# Altium schematic symbol library SCH_Lib_Devzone.SchLib: 453 symbols (part 3 of 3)
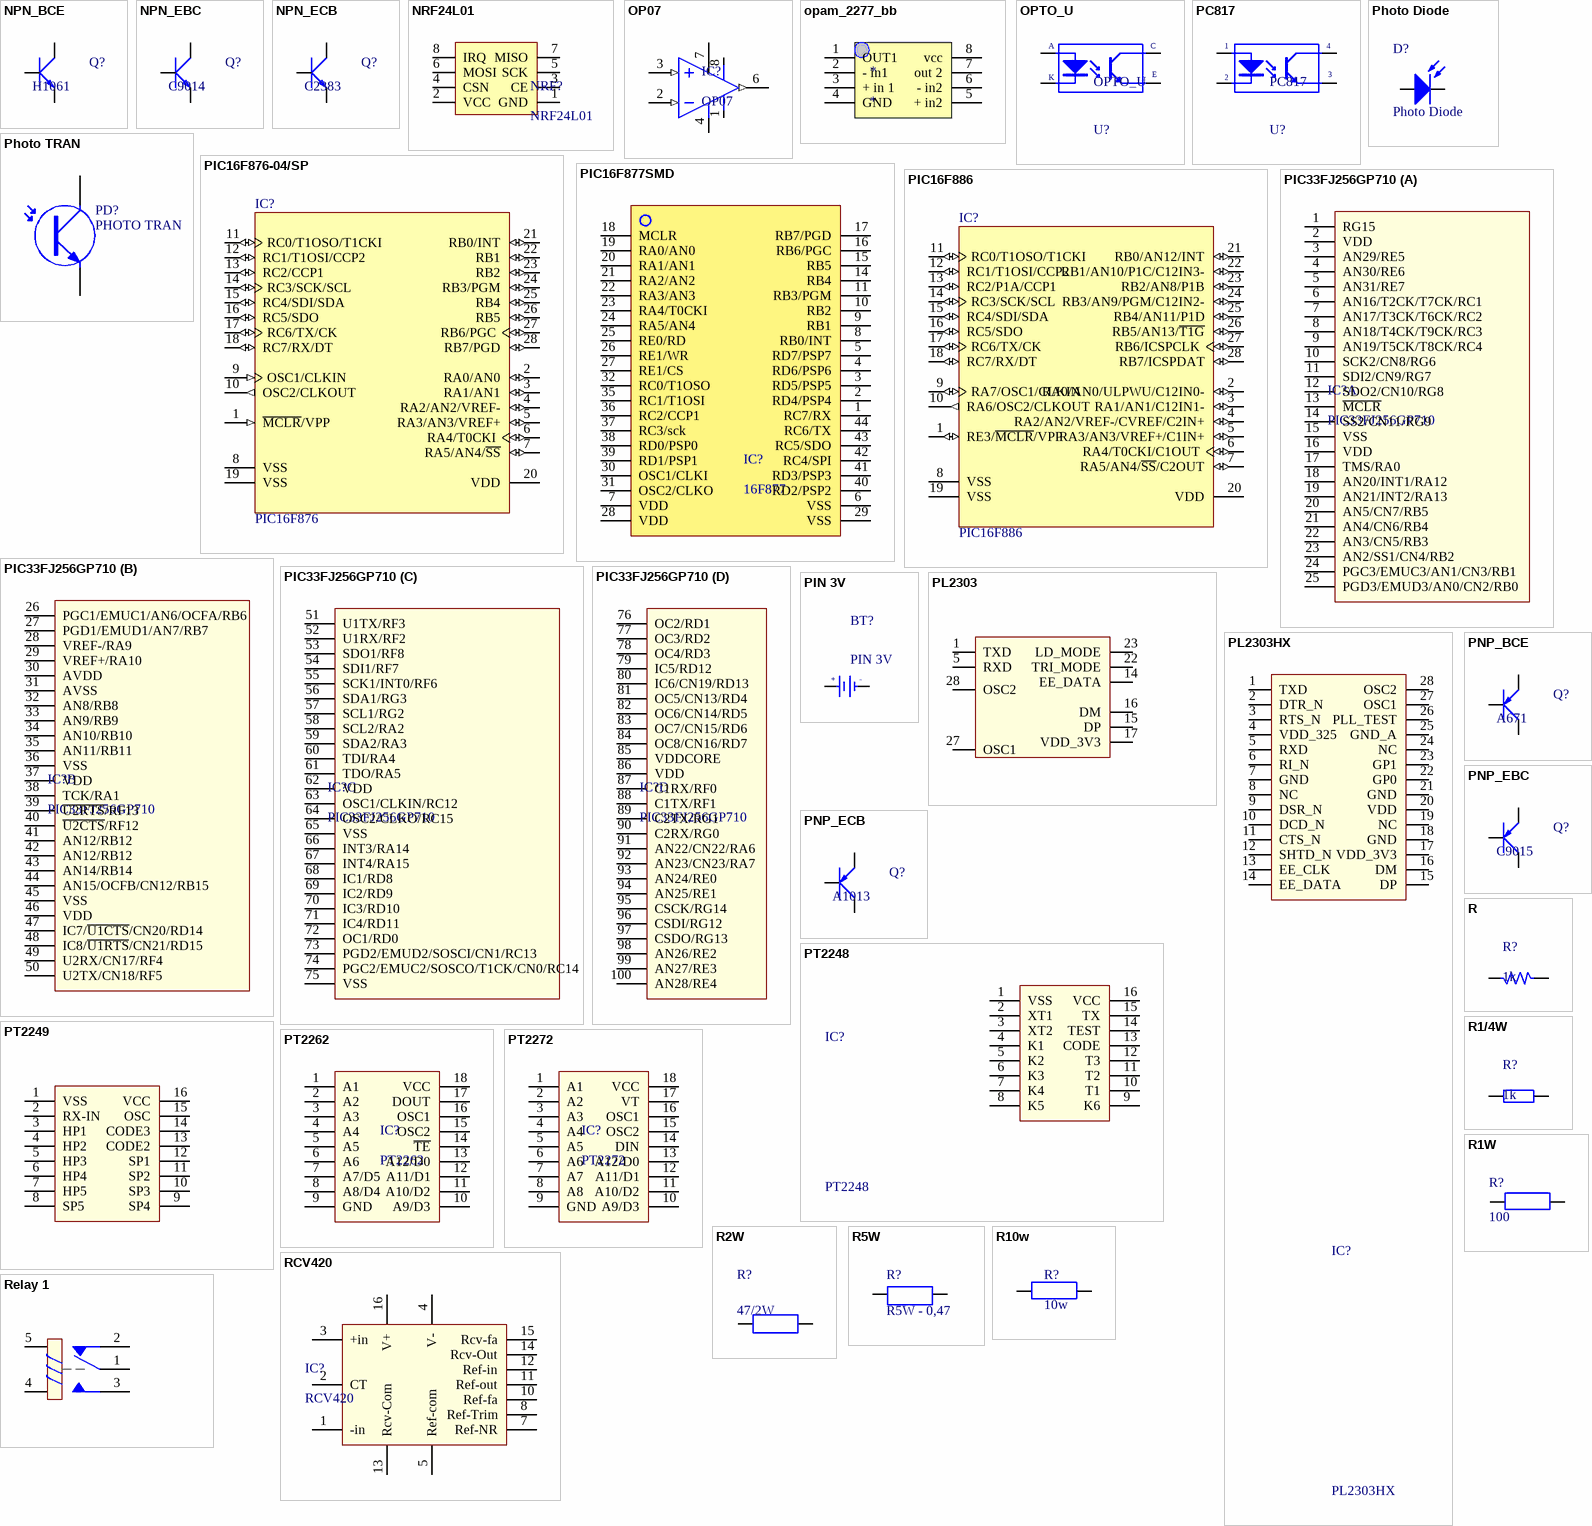
[diagram p18: symbols NPN_BCE to Relay 1]

## PIC33FJ256GP710
designator IC?
Value: DIP100
footprint DIP100_2M (DIP100 - P-P 2mm)
footprint TQFP-100-12X12 (Shrink QFP, 100-Leads, Body 12x12mm, Pitch 0.4mm, IPC High Density)
part A pins: 1 RG15, 2 VDD, 3 AN29/RE5, 4 AN30/RE6, 5 AN31/RE7, 6 AN16/T2CK/T7CK/RC1, 7 AN17/T3CK/T6CK/RC2, 8 AN18/T4CK/T9CK/RC3, 9 AN19/T5CK/T8CK/RC4, 10 SCK2/CN8/RG6, 11 SDI2/CN9/RG7, 12 SDO2/CN10/RG8, 13 ~{MCLR}, 14 SS2/CN11/RG9, 15 VSS, 16 VDD, 17 TMS/RA0, 18 AN20/INT1/RA12, 19 AN21/INT2/RA13, 20 AN5/CN7/RB5, 21 AN4/CN6/RB4, 22 AN3/CN5/RB3, 23 AN2/SS1/CN4/RB2, 24 PGC3/EMUC3/AN1/CN3/RB1, 25 PGD3/EMUD3/AN0/CN2/RB0
part B pins: 26 PGC1/EMUC1/AN6/OCFA/RB6, 27 PGD1/EMUD1/AN7/RB7, 28 VREF-/RA9, 29 VREF+/RA10, 30 AVDD, 31 AVSS, 32 AN8/RB8, 33 AN9/RB9, 34 AN10/RB10, 35 AN11/RB11, 36 VSS, 37 VDD, 38 TCK/RA1, 39 ~{U2RTS}/RF13, 40 ~{U2CTS}/RF12, 41 AN12/RB12, 42 AN12/RB12, 43 AN14/RB14, 44 AN15/OCFB/CN12/RB15, 45 VSS, 46 VDD, 47 IC7/~{U1CTS}/CN20/RD14, 48 IC8/~{U1RTS}/CN21/RD15, 49 U2RX/CN17/RF4, 50 U2TX/CN18/RF5
part C pins: 51 U1TX/RF3, 52 U1RX/RF2, 53 SDO1/RF8, 54 SDI1/RF7, 55 SCK1/INT0/RF6, 56 SDA1/RG3, 57 SCL1/RG2, 58 SCL2/RA2, 59 SDA2/RA3, 60 TDI/RA4, 61 TDO/RA5, 62 VDD, 63 OSC1/CLKIN/RC12, 64 OSC2/CLKO/RC15, 65 VSS, 66 INT3/RA14, 67 INT4/RA15, 68 IC1/RD8, 69 IC2/RD9, 70 IC3/RD10, 71 IC4/RD11, 72 OC1/RD0, 73 PGD2/EMUD2/SOSCI/CN1/RC13, 74 PGC2/EMUC2/SOSCO/T1CK/CN0/RC14, 75 VSS
part D pins: 76 OC2/RD1, 77 OC3/RD2, 78 OC4/RD3, 79 IC5/RD12, 80 IC6/CN19/RD13, 81 OC5/CN13/RD4, 82 OC6/CN14/RD5, 83 OC7/CN15/RD6, 84 OC8/CN16/RD7, 85 VDDCORE, 86 VDD, 87 C1RX/RF0, 88 C1TX/RF1, 89 C2TX/RG1, 90 C2RX/RG0, 91 AN22/CN22/RA6, 92 AN23/CN23/RA7, 93 AN24/RE0, 94 AN25/RE1, 95 CSCK/RG14, 96 CSDI/RG12, 97 CSDO/RG13, 98 AN26/RE2, 99 AN27/RE3, 100 AN28/RE4

## PIN 3V
designator BT?
Battery 3VDC; Value: PIN 3V
footprint PIN3V (Socket PIN 3V)
footprint PIN 3V-S (Socket PIN 3V)
pins: 1 +3V, 2 GND
text: +; -

## PL2303
designator IC?
USB - RS232 Converter; Value: PL2303
footprint SO-G28/C6.8 (SSOP, Plastic; 28 Leads; Body Width 5.3 mm; Pitch 0.65 mm)
pins: 1 TXD, 2 DTR_N hidden, 3 RTS_N hidden, 4 VDD_232 hidden to VCC, 5 RXD, 6 RI_N hidden to GND, 7 GND hidden to GND, 8 VDD hidden to VCC, 9 DSR_N hidden to GND, 10 DCD_N hidden to GND, 11 CTS_N hidden to VCC, 12 SHTD_N hidden, 13 EE_CLK hidden, 14 EE_DATA, 15 DP, 16 DM, 17 VDD_3V3, 18 GND_3V3 hidden to GND, 19 RESET hidden to VCC, 20 VDD hidden to VCC, 21 GND hidden to GND, 22 TRI_MODE, 23 LD_MODE, 24 VDD_PLL hidden to VCC, 25 GND_PLL hidden to GND, 26 PLL_TEST hidden to GND, 27 OSC1, 28 OSC2

## PL2303HX
designator IC?
USB - RS232 Converter; Value: PL2303
footprint SO-G28/C6.8 (SSOP, Plastic; 28 Leads; Body Width 5.3 mm; Pitch 0.65 mm)
pins: 1 TXD, 2 DTR_N, 3 RTS_N, 4 VDD_325, 5 RXD, 6 RI_N, 7 GND, 8 NC, 9 DSR_N, 10 DCD_N, 11 CTS_N, 12 SHTD_N, 13 EE_CLK, 14 EE_DATA, 15 DP, 16 DM, 17 VDD_3V3, 18 GND, 19 NC, 20 VDD, 21 GND, 22 GP0, 23 GP1, 24 NC, 25 GND_A, 26 PLL_TEST, 27 OSC1, 28 OSC2

## PNP_BCE
designator Q?, comment A671
P 1W, EBC; Value: TIP42
footprint QTO-220 (TO-220 - 1-2-3)
pins: 1 B, 2 C, 3 E

## PNP_EBC
designator Q?, comment C9015
P 600mW, EBC; Value: C9015
footprint QTO-92 (TO-92)
pins: 1 E, 2 B, 3 C

## PNP_ECB
designator Q?, comment A1013
P 600mW, ECB; Value: A1015
footprint QTO-92 (TO-92)
pins: 1 E, 2 C, 3 B

## PT2248
designator IC?
Remote Control Tranmitter; Value: PT2248
footprint DIP16/W0.3 (16 PIN, W 300mil, Pin to pin 100mil)
pins: 1 VSS, 2 XT1, 3 XT2, 4 K1, 5 K2, 6 K3, 7 K4, 8 K5, 9 K6, 10 T1, 11 T2, 12 T3, 13 CODE, 14 TEST, 15 TX, 16 VCC

## PT2249
designator IC?
Remote Control Receiver; Value: PT2249
footprint DIP16/W0.3 (16 PIN, W 300mil, Pin to pin 100mil)
pins: 1 VSS, 2 RX-IN, 3 HP1, 4 HP2, 5 HP3, 6 HP4, 7 HP5, 8 SP5, 9 SP4, 10 SP3, 11 SP2, 12 SP1, 13 CODE2, 14 CODE3, 15 OSC, 16 VCC

## PT2262
designator IC?
Remote Control Encoder
footprint DIP18/W0.3 (18 PIN, W 300mil, Pin to pin 100mil)
pins: 1 A1, 2 A2, 3 A3, 4 A4, 5 A5, 6 A6, 7 A7/D5, 8 A8/D4, 9 GND, 10 A9/D3, 11 A10/D2, 12 A11/D1, 13 A12/D0, 14 ~{TE}, 15 OSC2, 16 OSC1, 17 DOUT, 18 VCC

## PT2272
designator IC?
Remote Control Decoder
footprint DIP18/W0.3 (18 PIN, W 300mil, Pin to pin 100mil)
pins: 1 A1, 2 A2, 3 A3, 4 A4, 5 A5, 6 A6, 7 A7, 8 A8, 9 GND, 10 A9/D3, 11 A10/D2, 12 A11/D1, 13 A12/D0, 14 DIN, 15 OSC2, 16 OSC1, 17 VT, 18 VCC

## R
designator R?, comment 1k
Resistor 1/4W; Value: R1/4W - 1K
footprint SM-1206 (Compoment SMD 120x60mil)
footprint R1/8W (R 1/8W, 2 pin, 300mil)
footprint R1/4W (R 1/4W, 2 Pin, 350mil)
footprint R1/4WD (R 1/4W, 2 Pin, 150mil)
pins: 1, 2

## R1/4W
designator R?, comment 1k
Resistor 1/4W; Value: R1/4W - 1K
footprint R1/4W (R 1/4W, 2 Pin, 350mil)
footprint R1/8W (R 1/8W, 2 pin, 300mil)
footprint R1/2W (R 1/2W, 2 pin, 400mil)
footprint R1/4WD (R 1/4W, 2 Pin, 150mil)
pins: 1, 2

## R1W
designator R?, comment 100
Resistor 1W; Value: R1W - 100
footprint R1W (R 1W, 2 pin, 500mil)
footprint R1WD (R 1W, 2 pin, 500mil)
footprint Res_15mm
pins: 1, 2

## R2W
designator R?, comment 47/2W
Resistor 2W; Value: R2W - 47
footprint R2WD (R2W, 2 pin, 700mil)
footprint R2W (R2W, 2 pin, 700mil)
pins: 1, 2

## R5W
designator R?, comment R5W - 0,47
Resistor 5W; Value: R5W - 0,47R
footprint R5W (R5W , 2 pin, 950mil)
footprint R5WD (R5W , 2 pin, 300 x 600 mil)
pins: 1 "R5W", 2 "R5W"

## R10w
designator R?, comment 10w
footprint R10w
pins: 1, 2

## RCV420
designator IC?
Precision 4mA to 20mA  CURRENT LOOP RECEIVER; Designed by: VanDungEvn; Value: RCV420
footprint DIP16/W0.3 (16 PIN, W 300mil, Pin to pin 100mil)
pins: 1 -in, 2 CT, 3 +in, 4 V-, 5 Ref-com, 7 Ref-NR, 8 Ref-Trim, 10 Ref-fa, 11 Ref-out, 12 Ref-in, 13 Rcv-Com, 14 Rcv-Out, 15 Rcv-fa, 16 V+

## Relay 1
designator RL?, comment Relay 10A/12V
Relay SPDT,10A - 12VDC 5 Pin; Value: Relay SPDT, 10A, 12V
footprint RL_SPDT_10A (Relay SPDT, 5 pin, 10A,W 650mil, L 800mil, H 800mil)
pins: 1, 2, 3, 4, 5

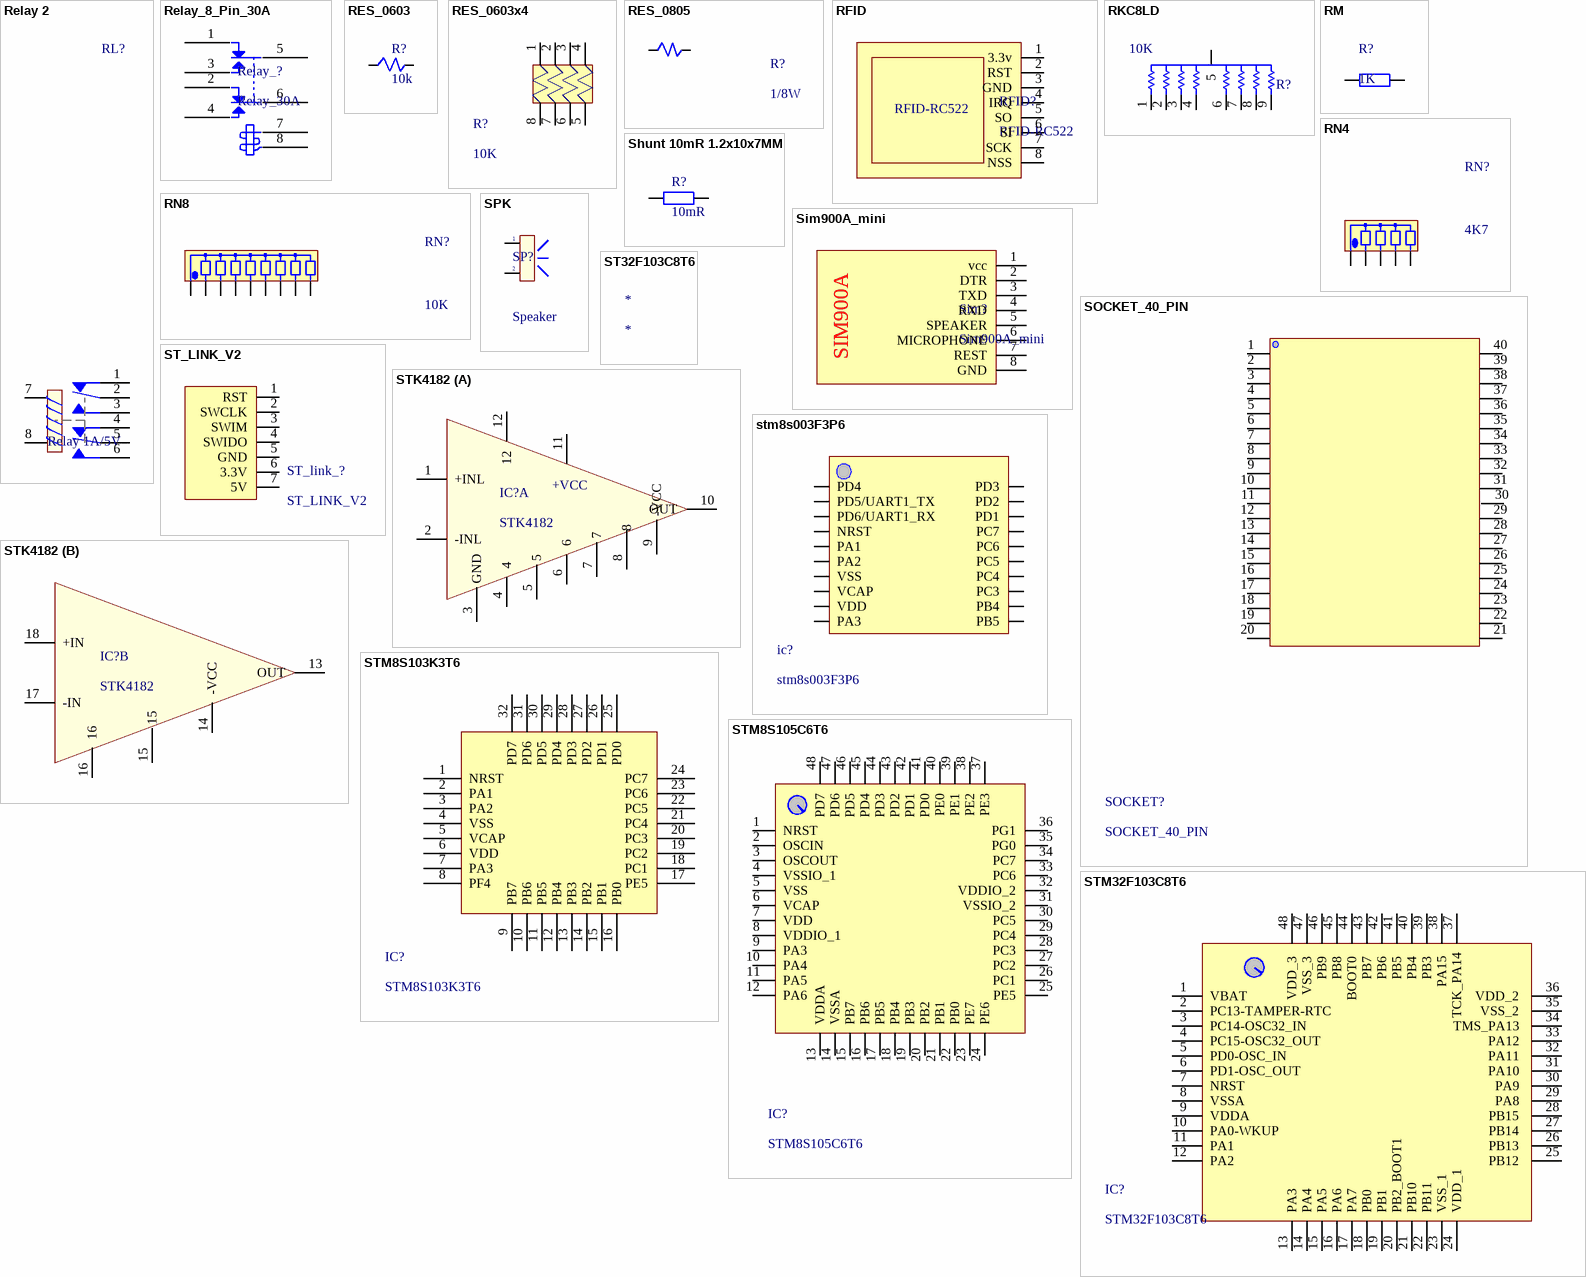
[diagram p13: symbols Relay 2 to STM32F103C8T6]

## Relay 2
designator RL?, comment Relay 1A/5V
Relay DPDT; Discription: Relay DPDT 5V, 12V - 1A - 5A; Value: Relay - 5V - 1A
footprint RL_DPDT_5A (Reley DPDT, 8 pin, 5A, W500mil, L1100mil,H 950mil)
footprint RL_DPDT_1A (Reley DPDT, 8 pin, 1A, W400mil, L800mil,H 300mil)
pins: 1, 2, 3, 4, 5, 6, 7, 8

## Relay_8_Pin_30A
designator Relay_?, comment Relay_30A
Relay
footprint PCBComponent_1
pins: 1 COIL1, 2 COIL2, 3 NC2, 4 COMMON2, 5 NO2, 6 NC1, 7 NO1, 8 COMMON1

## RES_0603
designator R?, comment 10k
0603
footprint 0603
pins: 1, 2

## RES_0603x4
designator R?, comment 10K
res0603x4
footprint RES_SMD_4WAY
pins: 1, 2, 3, 4, 5, 6, 7, 7, 8

## RES_0805
designator R?, comment 1/8W
res_dan
footprint RES_0805
pins: 1, 2

## RFID
designator RFID?, comment RFID-RC522
footprint RFID
pins: 1 3.3v, 2 RST, 3 GND, 4 IRQ, 5 SO, 6 SI, 7 SCK, 8 NSS

## RKC8LD
designator R?, comment 10K
Resistor Pack 4x2; Value: 10K
footprint RN8 (R SIP8, 9 Pin)
pins: 1, 2, 3, 4, 5, 6, 7, 8, 9

## RM
designator R?, comment 1K
Resistor SMD; Value: 1K
footprint SM-1206 (Compoment SMD 120x60mil)
footprint SM-0805 (Compoment SMD 80x50mil)
pins: 1, 2

## RN4
designator RN?, comment 4K7
Resistor 4 (thanh); Value: Tro thanh 4K7
footprint RN4 (R SIP4, 5 Pin)
pins: 1, 2, 3, 4, 5

## RN8
designator RN?, comment 10K
Resistor 8 (Thanh); Value: Tro thanh 10K
footprint RN8 (R SIP8, 9 Pin)
pins: 1, 2, 3, 4, 5, 6, 7, 8, 9

## Shunt 10mR 1.2x10x7MM
designator R?, comment 10mR
Shunt 10mR 1.2x10x7MM
footprint Shunt 10mR 1.2x10x7MM
pins: 1, 2

## Sim900A_mini
designator Sim?
http://linhkientcp.vn/module-sim-900a-mini-pr259.html
footprint sim900A_mini
pins: 1 vcc, 2 DTR, 3 TXD, 4 RXD, 5 SPEAKER, 6 MICROPHONE, 7 REST, 8 GND
text: SIM900A

## SOCKET_40_PIN
designator SOCKET?
footprint SOCKET_40PIN
pins: 1, 2, 3, 4, 5, 6, 7, 8, 9, 10, 11, 12, 13, 14, 15, 16, 17, 18, 19, 20, 21, 22, 23, 24, 25, 26, 27, 28, 29, 30, 31, 32, 33, 34, 35, 36, 37, 38, 39, 40

## SPK
designator SP?, comment Speaker
Speaker Chip; Value: Speaker Chip
footprint SPK (Speaker Chip)
footprint SP1 (Speaker Telphone on Broad)
pins: 1, 2

## ST32F103C8T6
designator *

## ST_LINK_V2
designator ST_link_?
footprint ST_LINK_V2
pins: 1 RST, 2 SWCLK, 3 SWIM, 4 SWIDO, 5 GND, 6 3.3V, 7 5V

## STK4182
designator IC?
AF Power Amplifier 2x10W
footprint STK4182 (Pin to pin 100mil, 18 pin)
part A pins: 1 +INL, 2 -INL, 3 GND, 4, 5, 6, 7, 8, 9 -VCC, 10 OUT, 11 +VCC, 12
part B pins: 13 OUT, 14 -VCC, 15, 16, 17 -IN, 18 +IN

## stm8s003F3P6
designator ic?
footprint STM8S003F3P6 -Top Layer
footprint stm8s003f3p6_bottom layer
pins: 1 PD4, 2 PD5/UART1_TX, 3 PD6/UART1_RX, 4 NRST, 5 PA1, 6 PA2, 7 VSS, 8 VCAP, 9 VDD, 10 PA3, 11 PB5, 12 PB4, 13 PC3, 14 PC4, 15 PC5, 16 PC6, 17 PC7, 18 PD1, 19 PD2, 20 PD3

## STM8S103K3T6
designator IC?
footprint stm8s_32pin
pins: 1 NRST, 2 PA1, 3 PA2, 4 VSS, 5 VCAP, 6 VDD, 7 PA3, 8 PF4, 9 PB7, 10 PB6, 11 PB5, 12 PB4, 13 PB3, 14 PB2, 15 PB1, 16 PB0, 17 PE5, 18 PC1, 19 PC2, 20 PC3, 21 PC4, 22 PC5, 23 PC6, 24 PC7, 25 PD0, 26 PD1, 27 PD2, 28 PD3, 29 PD4, 30 PD5, 31 PD6, 32 PD7

## STM8S105C6T6
designator IC?
footprint STM8S105C6T6
pins: 1 NRST, 2 OSCIN, 3 OSCOUT, 4 VSSIO_1, 5 VSS, 6 VCAP, 7 VDD, 8 VDDIO_1, 9 PA3, 10 PA4, 11 PA5, 12 PA6, 13 VDDA, 14 VSSA, 15 PB7, 16 PB6, 17 PB5, 18 PB4, 19 PB3, 20 PB2, 21 PB1, 22 PB0, 23 PE7, 24 PE6, 25 PE5, 26 PC1, 27 PC2, 28 PC3, 29 PC4, 30 PC5, 31 VSSIO_2, 32 VDDIO_2, 33 PC6, 34 PC7, 35 PG0, 36 PG1, 37 PE3, 38 PE2, 39 PE1, 40 PE0, 41 PD0, 42 PD1, 43 PD2, 44 PD3, 45 PD4, 46 PD5, 47 PD6, 48 PD7

## STM32F103C8T6
designator IC?
footprint STM32F103C8T6
pins: 1 VBAT, 2 PC13-TAMPER-RTC, 3 PC14-OSC32_IN, 4 PC15-OSC32_OUT, 5 PD0-OSC_IN, 6 PD1-OSC_OUT, 7 NRST, 8 VSSA, 9 VDDA, 10 PA0-WKUP, 11 PA1, 12 PA2, 13 PA3, 14 PA4, 15 PA5, 16 PA6, 17 PA7, 18 PB0, 19 PB1, 20 PB2_BOOT1, 21 PB10, 22 PB11, 23 VSS_1, 24 VDD_1, 25 PB12 , 26 PB13 , 27 PB14 , 28 PB15 , 29 PA8 , 30 PA9 , 31 PA10 , 32 PA11 , 33 PA12 , 34 TMS_PA13 , 35 VSS_2 , 36 VDD_2 , 37 TCK_PA14, 38 PA15 , 39 PB3 , 40 PB4 , 41 PB5 , 42 PB6 , 43 PB7 , 44 BOOT0 , 45 PB8 , 46 PB9 , 47 VSS_3 , 48 VDD_3 

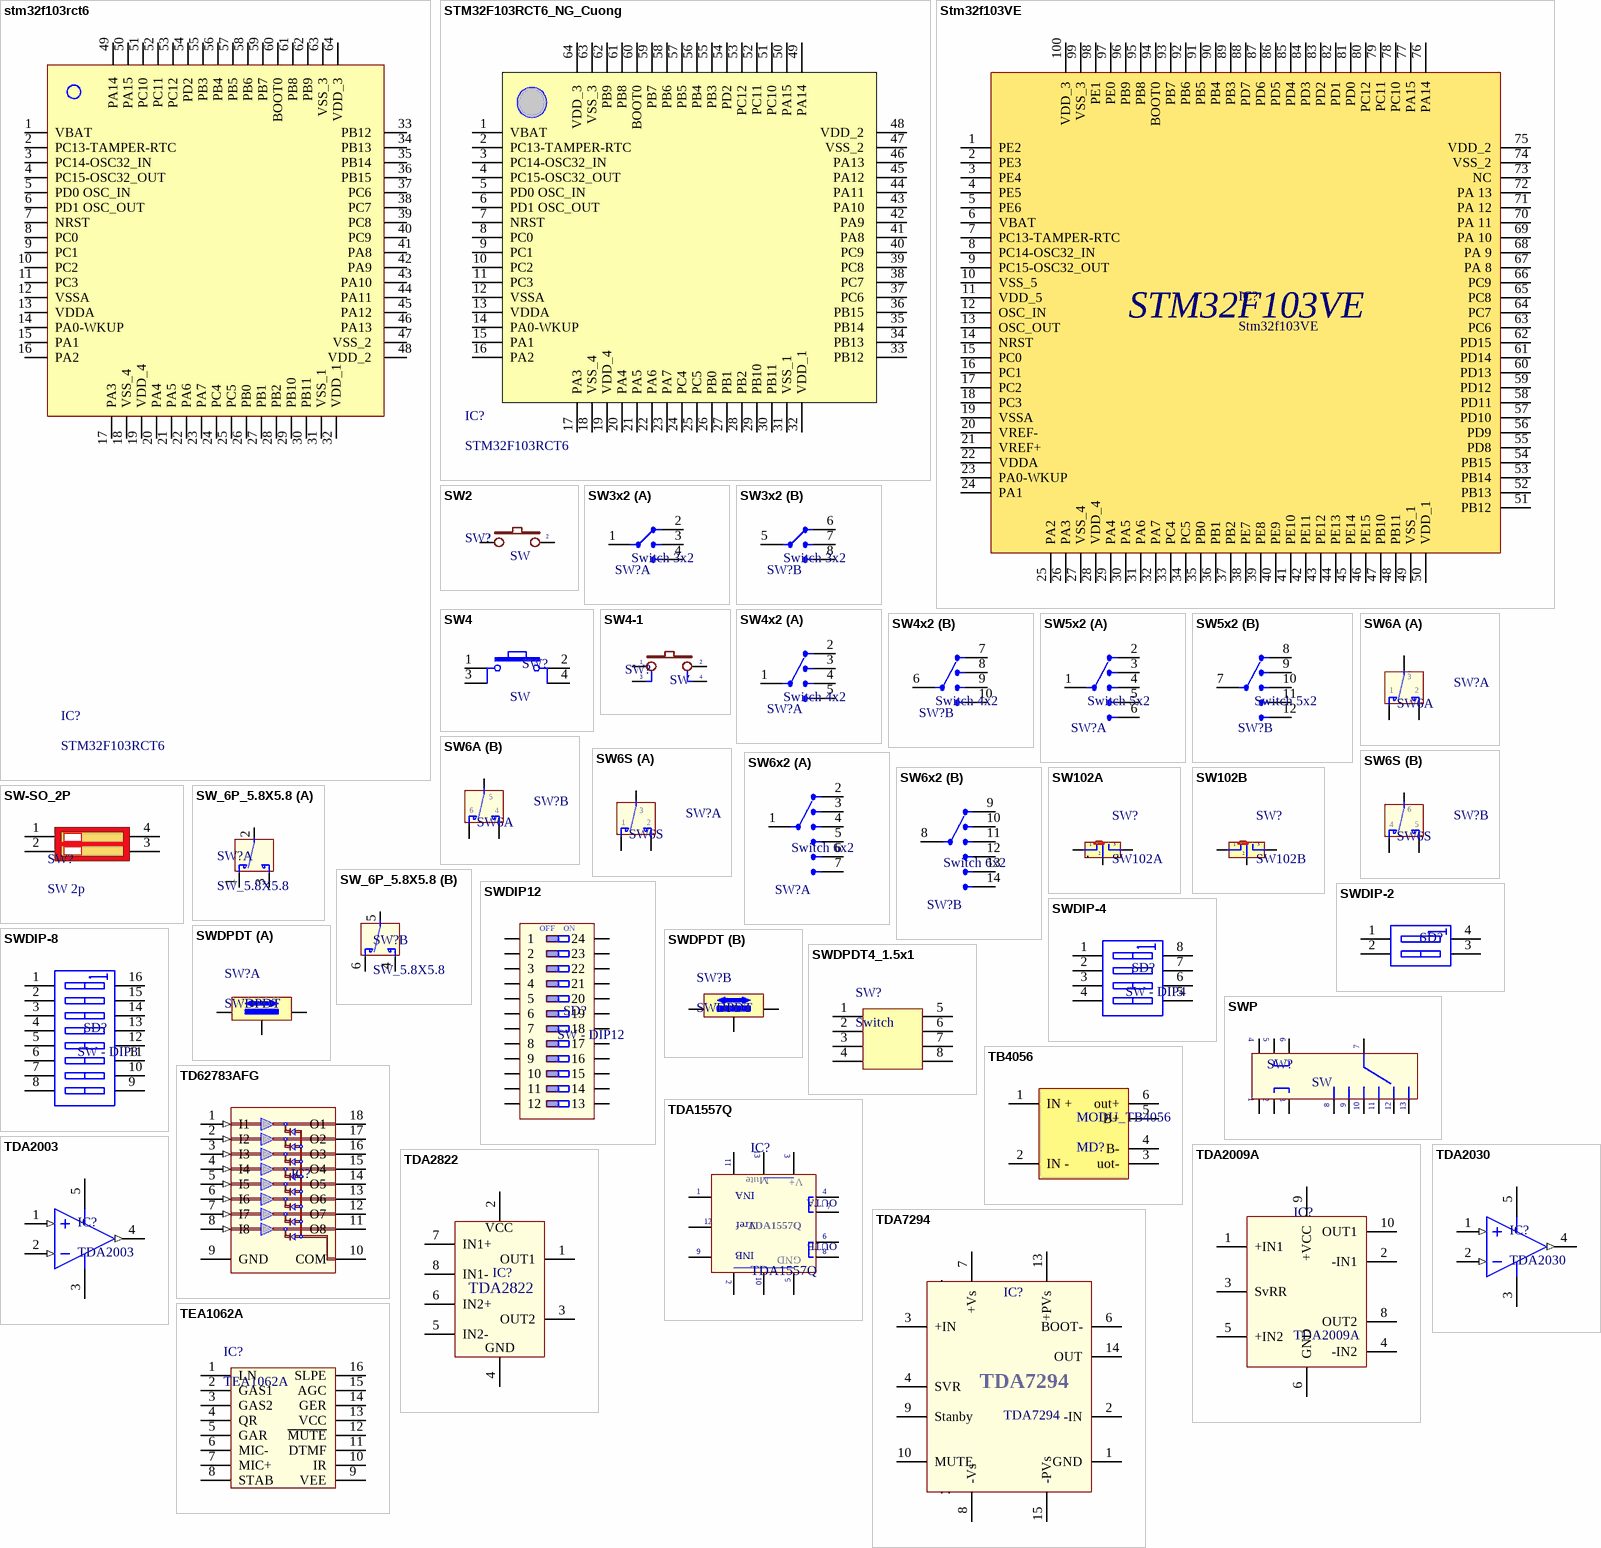
[diagram p14: symbols stm32f103rct6 to TEA1062A]

## stm32f103rct6
designator IC?, comment STM32F103RCT6
footprint stm32f103rct6
pins: 1 VBAT, 2 PC13-TAMPER-RTC, 3 PC14-OSC32_IN, 4 PC15-OSC32_OUT, 5 PD0 OSC_IN, 6 PD1 OSC_OUT, 7 NRST, 8 PC0, 9 PC1, 10 PC2, 11 PC3, 12 VSSA, 13 VDDA, 14 PA0-WKUP, 15 PA1, 16 PA2, 17 PA3, 18 VSS_4, 19 VDD_4, 20 PA4, 21 PA5, 22 PA6, 23 PA7, 24 PC4, 25 PC5, 26 PB0, 27 PB1, 28 PB2, 29 PB10, 30 PB11, 31 VSS_1, 32 VDD_1, 33 PB12 , 34 PB13 , 35 PB14 , 36 PB15 , 37 PC6 , 38 PC7 , 39 PC8 , 40 PC9 , 41 PA8 , 42 PA9 , 43 PA10 , 44 PA11 , 45 PA12 , 46 PA13 , 47 VSS_2 , 48 VDD_2 , 49 PA14 , 50 PA15 , 51 PC10 , 52 PC11 , 53 PC12 , 54 PD2 , 55 PB3 , 56 PB4 , 57 PB5 , 58 PB6 , 59 PB7 , 60 BOOT0 , 61 PB8 , 62 PB9 , 63 VSS_3 , 64 VDD_3 

## STM32F103RCT6_NG_Cuong
designator IC?, comment STM32F103RCT6
footprint STM32F103RCT6_NG_cuong
pins: 1 VBAT, 2 PC13-TAMPER-RTC, 3 PC14-OSC32_IN, 4 PC15-OSC32_OUT, 5 PD0 OSC_IN, 6 PD1 OSC_OUT, 7 NRST, 8 PC0, 9 PC1, 10 PC2, 11 PC3, 12 VSSA, 13 VDDA, 14 PA0-WKUP, 15 PA1, 16 PA2, 17 PA3, 18 VSS_4, 19 VDD_4, 20 PA4, 21 PA5, 22 PA6, 23 PA7, 24 PC4, 25 PC5, 26 PB0, 27 PB1, 28 PB2, 29 PB10, 30 PB11, 31 VSS_1, 32 VDD_1, 33 PB12 , 34 PB13 , 35 PB14 , 36 PB15 , 37 PC6 , 38 PC7 , 39 PC8 , 40 PC9 , 41 PA8 , 42 PA9 , 43 PA10 , 44 PA11 , 45 PA12 , 46 PA13 , 47 VSS_2 , 48 VDD_2 , 49 PA14 , 50 PA15 , 51 PC10 , 52 PC11 , 53 PC12 , 54 PD2 , 55 PB3 , 56 PB4 , 57 PB5 , 58 PB6 , 59 PB7 , 60 BOOT0 , 61 PB8 , 62 PB9 , 63 VSS_3 , 64 VDD_3 

## Stm32f103VE
designator IC?
footprint LQFP100
pins: 1 PE2, 2 PE3, 3 PE4, 4 PE5, 5 PE6, 6 VBAT, 7 PC13-TAMPER-RTC, 8 PC14-OSC32_IN, 9 PC15-OSC32_OUT, 10 VSS_5, 11 VDD_5, 12 OSC_IN, 13 OSC_OUT, 14 NRST, 15 PC0, 16 PC1, 17 PC2, 18 PC3, 19 VSSA, 20 VREF-, 21 VREF+, 22 VDDA, 23 PA0-WKUP, 24 PA1, 25 PA2, 26 PA3, 27 VSS_4, 28 VDD_4, 29 PA4, 30 PA5, 31 PA6, 32 PA7, 33 PC4, 34 PC5, 35 PB0, 36 PB1, 37 PB2, 38 PE7, 39 PE8, 40 PE9, 41 PE10, 42 PE11, 43 PE12, 44 PE13, 45 PE14, 46 PE15, 47 PB10, 48 PB11, 49 VSS_1, 50 VDD_1, 51 PB12, 52 PB13, 53 PB14, 54 PB15, 55 PD8, 56 PD9, 57 PD10, 58 PD11, 59 PD12, 60 PD13, 61 PD14, 62 PD15, 63 PC6, 64 PC7, 65 PC8, 66 PC9, 67 PA 8, 68 PA 9, 69 PA 10, 70 PA 11, 71 PA 12, 72 PA 13, 73 NC, 74 VSS_2, 75 VDD_2, 76 PA14, 77 PA15, 78 PC10, 79 PC11, 80 PC12, 81 PD0, 82 PD1, 83 PD2, 84 PD3, 85 PD4, 86 PD5, 87 PD6, 88 PD7, 89 PB3, 90 PB4, 91 PB5, 92 PB6, 93 PB7, 94 BOOT0, 95 PB8, 96 PB9, 97 PE0, 98 PE1, 99 VSS_3, 100 VDD_3
text: STM32F103VE

## SW2
designator SW?, comment SW
Switch button 2 pin; Value: SW chip 2 pin
footprint SW2 (SW button 2pin, 250x 250 mil)
footprint sw_ran_2pin
footprint BUTT_Cam_ung
pins: 1, 2

## SW3x2
designator SW?, comment Switch 3x2
Value: Switch 4x2
footprint SW3X2 (Switch 3x2 - pin to pin 80)
part A pins: 1 Com, 2 I/O1, 3 I/O2, 4 I/O3
part B pins: 5 I/O10, 6 I/O9, 7 Com2, 8 I/O6

## SW4
designator SW?, comment SW
Switch button 4 pin; Value: Button chip 4 pin
footprint SW4 (SW button 4pin, 250 x250 mil)
footprint SW4B (SW button 4pin, 450 x 450 mil)
footprint SW_B3F
footprint SW4_SMD
pins: 1, 2, 3, 4

## SW4-1
designator SW?, comment SW
Switch button 4 pin; Value: SW chip 4 pin
footprint SW4 (SW button 4pin, 250 x250 mil)
footprint SW4B (SW button 4pin, 450 x 450 mil)
pins: 1, 2, 3, 4

## SW4x2
designator SW?, comment Switch 4x2
Value: Switch 4x2
footprint SW4X2 (Switch 4x2)
part A pins: 1 Com, 2 I/O1, 3 I/O2, 4 I/O3, 5 I/O4
part B pins: 6 I/O9, 7 Com2, 8 I/O6, 9 I/O7, 10 I/O8

## SW5x2
designator SW?, comment Switch 5x2
Value: Switch 5x2
footprint SW5X2 (Switch 5x2)
part A pins: 1 Com, 2 I/O1, 3 I/O2, 4 I/O3, 5 I/O4, 6 I/O5
part B pins: 7 Com2, 8 I/O6, 9 I/O7, 10 I/O8, 11 I/O9, 12 I/O10

## SW6A
designator SW?
SW-DTDP - 6 Pin; Value: SW6
footprint SW6 (SW DTDP - 6Pin 260x300x300 mil)
part A pins: 1, 2, 3
part B pins: 4, 5, 6

## SW6S
designator SW?
SW-DTDP - 6 Pin; Value: SW6
footprint SW6 (SW DTDP - 6Pin 260x300x300 mil)
footprint SW6-5.8X5.8
part A pins: 1, 2, 3
part B pins: 4, 5, 6

## SW6x2
designator SW?, comment Switch 6x2
Value: Switch 6x2
footprint SW6X2 (Switch 6x2)
part A pins: 1 Com, 2 I/O1, 3 I/O2, 4 I/O3, 5 I/O4, 6 I/O5, 7 I/O6
part B pins: 8 I/O6, 9 I/O7, 10 I/O8, 11 I/O9, 12 I/O10, 13 I/O11, 14 I/O12

## SW102A
designator SW?
Switch 102 on Broad; Value: Switch 102 On Board
footprint SW102 (Switch 102 On Board nho)
footprint SW102T (Switch 102 On Board To)
pins: 1, 2, 3, 4, 5

## SW102B
designator SW?
Switch 102 on Broad; Value: Switch 102 On Board
footprint SW-GAT
footprint SW102T (Switch 102 On Board To)
pins: 1, 2, 3

## SW-SO_2P
designator SW?, comment SW 2p
footprint SW-so_2p
pins: 1, 2, 3, 4

## SW_6P_5.8X5.8
designator SW?, comment SW_5.8X5.8
footprint SW6-5.8X5.8
footprint SW6_5.8x5.8_smd
part A pins: 1, 2, 3
part B pins: 4, 5, 6

## SWDIP12
designator SD?, comment SW - DIP12
DIP Switch, 12 Position, SPST; Value: SW - DIP12
footprint DIP24/W0.3 (DIP24/W.300, Pin to pin 100mil)
pins: 1, 2, 3, 4, 5, 6, 7, 8, 9, 10, 11, 12, 13, 14, 15, 16, 17, 18, 19, 20, 21, 22, 23, 24
text: OFF; ON

## SWDIP-2
designator SD?, comment SW - DIP2  (value not drawn)
DIP Switch, 2 Position, SPST; Value: SW - DIP2
footprint DIP4/W0.3 KEY (4 PIN, W 400mil , L 450mil,Pin to pin 100mil)
pins: 1 A1, 2 A2, 3 A3, 4 A4

## SWDIP-4
designator SD?, comment SW - DIP4
DIP Switch, 4 Position, SPST; Value: SW - DIP4
footprint DIP8_SW_bit
pins: 1 A1, 2 A2, 3 A3, 4 A4, 5 B4, 6 B3, 7 B2, 8 B1

## SWDIP-8
designator SD?, comment SW - DIP8
DIP Switch, 8 Position, SPST; Value: SW - DIP8
footprint DIP16/W0.3 KEY (16 PIN, W 300mil, Pin to pin 100mil)
simulation model dpsw8 (Spice Subcircuit)
pins: 1 A1, 2 A2, 3 A3, 4 A4, 5 A5, 6 A6, 7 A7, 8 A8, 9 B8, 10 B7, 11 B6, 12 B5, 13 B4, 14 B3, 15 B2, 16 B1

## SWDPDT
designator SW?
Switch SPDT; Creat by: VanDungEvn@Gmail.com
footprint SWDPDT_1.5x1 (Switch DPDT, Pin to Pin 150mil, Row to Row 100mil)
footprint SWDPDT_1.5x2 (Switch DPDT, Pin to Pin 150mil, Row to Row 200mil)
part A pins: 1, 2, 3
part B pins: 4, 5, 6

## SWDPDT4_1.5x1
designator SW?, comment Switch
Switch 1-3 x2
footprint SWDPDT4_1.5x1 (Switch 3 DPDT, Pin to Pin 150mil, Row to Row 100mil)
pins: 1, 2, 3, 4, 5, 6, 7, 8

## SWP
designator SW?, comment SW
Switch Power; Value: SW Power
footprint SWP (SW Power)
pins: 1, 2, 3, 4, 5, 6, 7, 8, 9, 10, 11, 12, 13

## TB4056
designator MODU_TB4056, comment MD?
Modu_nguon
footprint MODU_Tb4056
pins: 1 IN +, 2 IN -, 3 uot-, 4 B-, 5 B+, 6 out+

## TD62783AFG
designator IC?  (value not drawn)
High-Voltage, High-Current Darlington Array; Value: TD62783AFG
footprint DIP18/W0.3 (18 PIN, W 300mil, Pin to pin 100mil)
pins: 1 I1 (in), 2 I2 (in), 3 I3 (in), 4 I4 (in), 5 I5 (in), 6 I6 (in), 7 I7 (in), 8 I8 (in), 9 GND (power), 10 COM, 11 O8 (oc), 12 O7 (oc), 13 O6 (oc), 14 O5 (oc), 15 O4 (oc), 16 O3 (oc), 17 O2 (oc), 18 O1 (oc)

## TDA1557Q
designator IC?
2 x 22 W BTL stereo car radio power amplifier with speaker protection; Value: TDA1557Q
footprint DIP13/S1 (13 Pin so le hai hang cach nhau 200mil., Pin to pin 100mil)
pins: 1 IN1, 2 GND, 3 V+, 4 OUT1A, 5 GND, 6 OUT1B, 7 OUT2A, 8 OUT2B, 9 IN2, 10 GND, 11 Mute, 12 Vref, 13 V+
text: INA; OUTA; OUTB; INB

## TDA2003
designator IC?
10W CAR RADIO AUDIO AMPLIFIER; Value: TDA2003
footprint DIP5SL1
pins: 1 IN+ (in), 2 IN- (in), 3 V- (power), 4 OUT (out), 5 V+ (power)

## TDA2009A
designator IC?
2 x 10 W BTL stereo car radio power amplifier with speaker protection; Value: TDA1557Q
footprint DIP11/S1 (11 Pin so le hai hang cach nhau 200mil., Pin to pin 100mil)
pins: 1 +IN1, 2 -IN1, 3 SvRR, 4 -IN2, 5 +IN2, 6 GND, 8 OUT2, 9 +VCC, 10 OUT1

## TDA2030
designator IC?
14W Hi-Fi AUDIO AMPLIFIER; Value: TDA2030
footprint DIP5SL1
pins: 1 IN+ (in), 2 IN- (in), 3 V- (power), 4 OUT (out), 5 V+ (power)

## TDA2822
designator IC?  (value not drawn)
Dual Low Voltage Power Amplifire
footprint DIP8/W0.3 (8 PIN, W 300mil, Pin to pin 100mil)
pins: 1 OUT1, 2 VCC, 3 OUT2, 4 GND "VCC", 5 IN2- "VCC", 6 IN2+ "VCC", 7 IN1+ "VCC", 8 IN1- "VCC"

## TDA7294
designator IC?
100V - 100W DMOS AUDIO AMPLIFIER WITH MUTE/ST-BY; Value: TDA1557Q
footprint DIP15SL2 (TO, Thru-Hole, Vertical, Heatsink Mounted; 15 Bent Staggered Leads; Pitch 1.27 mm)
pins: 1 GND, 2 -IN, 3 +IN, 4 SVR, 5 NC, 6 BOOT-, 7 +Vs, 8 -Vs, 9 Stanby, 10 MUTE, 11 NC, 12 NC, 13 +PVs, 14 OUT, 15 -PVs

## TEA1062A
designator IC?
Low voltage transmission circuits with dialler interface; Creat by: VanDungEvn@Gmail.com
footprint DIP16/W0.3 (16 PIN, W 300mil, Pin to pin 100mil)
pins: 1 LN, 2 GAS1, 3 GAS2, 4 QR, 5 GAR, 6 MIC-, 7 MIC+, 8 STAB, 9 VEE, 10 IR, 11 DTMF, 12 ~{MUTE}, 13 VCC, 14 GER, 15 AGC, 16 SLPE

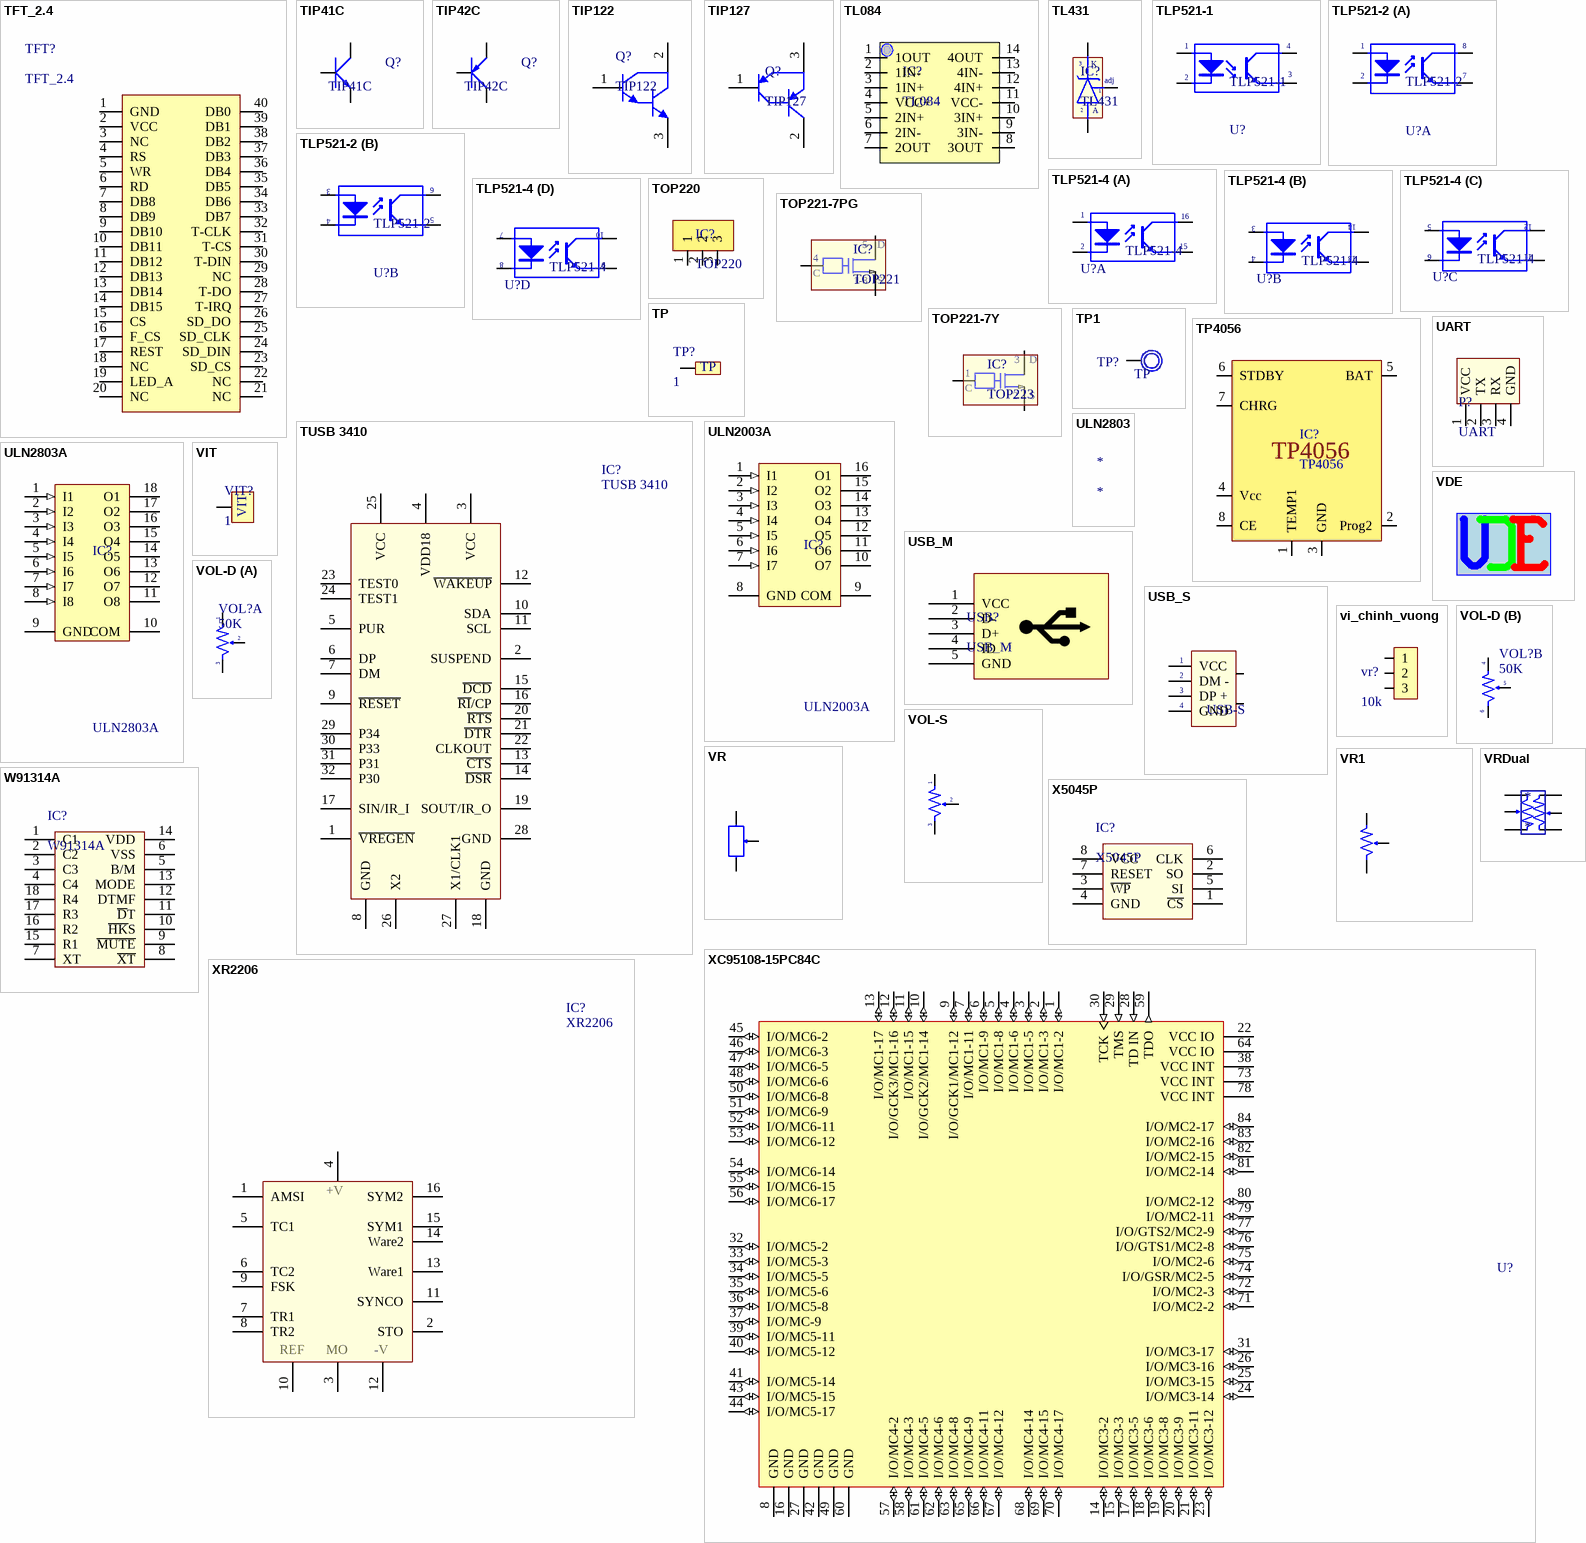
[diagram p15: symbols TFT_2.4 to XR2206]

## TFT_2.4
designator TFT?
footprint TFT_2.4
footprint tft 3.2
pins: 1 GND, 2 VCC, 3 NC, 4 RS, 5 WR, 6 RD, 7 DB8, 8 DB9, 9 DB10, 10 DB11, 11 DB12, 12 DB13, 13 DB14, 14 DB15, 15 CS, 16 F_CS, 17 REST, 18 NC, 19 LED_A, 20 NC, 21 NC, 22 NC, 23 SD_CS, 24 SD_DIN, 25 SD_CLK, 26 SD_DO, 27 T-IRQ, 28 T-DO, 29 NC, 30 T-DIN, 31 T-CS, 32 T-CLK, 33 DB7, 34 DB6, 35 DB5, 36 DB4, 37 DB3, 38 DB2, 39 DB1, 40 DB0

## TIP41C
designator Q?
NPN 2W, BCE; Value: TIP41C
footprint QTO-220 (TO-220 - 1-2-3)
pins: 1 B, 2 C, 3 E

## TIP42C
designator Q?
PNP 2W, BCE; Value: TIP42C
footprint QTO-220 (TO-220 - 1-2-3)
pins: 1 B, 2 C, 3 E

## TIP122
designator Q?
Darlington Silicon Power NPN Transistor, 8 Amp, 100 Volts and 65 Watts
footprint QTO-220 (TO-220 - 1-2-3)
pins: 1 B, 2 C, 3 E

## TIP127
designator Q?
footprint QTO-220 (TO-220 - 1-2-3)
pins: 1 B, 2 C, 3 E

## TL084
designator IC?
footprint DIP14/W0.3 (14PIN, W 300mil, Pin to pin 100mil)
pins: 1 1OUT, 2 1IN-, 3 1IN+, 4 VCC+, 5 2IN+, 6 2IN-, 7 2OUT, 8 3OUT, 9 3IN-, 10 3IN+, 11 VCC-, 12 4IN+, 13 4IN-, 14 4OUT

## TL431
designator IC?
Programmable Shunt Regulator; Value: TL431
footprint qto-92 (TO-92)
pins: 1 adj, 2 A, 3 K

## TLP521-1
designator U?
Single Opto; Value: TLP5211
footprint DIP4/W0.3 (4 PIN, W 300mil, Pin to pin 100mil)
pins: 1 A "Anode", 2 K "Cathode", 3 E "Emitter", 4 C "Collector"

## TLP521-2
designator U?
Dual Opto; Value: TLP521-2
footprint DIP8/W0.3 (8 PIN, W 300mil)
part A pins: 1 A "Anode", 2 K "Cathode", 7 E "Emitter", 8 C "Collector"
part B pins: 3 A "Anode", 4 K "Cathode", 5 E "Emitter", 6 C "Collector"

## TLP521-4
designator U?
Four Opto; Value: TLP521-4
footprint DIP16/W0.3 (16 PIN, W 300mil, Pin to pin 100mil)
part A pins: 1 A "Anode", 2 K "Cathode", 15 E "Emitter", 16 C "Collector"
part B pins: 3 A "Anode", 4 K "Cathode", 13 E "Emitter", 14 C "Collector"
part C pins: 5 A "Anode", 6 K "Cathode", 11 E "Emitter", 12 C "Collector"
part D pins: 7 A "Anode", 8 K "Cathode", 9 E "Emitter", 10 C "Collector"

## TOP220
designator IC?
footprint TO220 BTA12
pins: 1, 2, 3

## TOP221-7PG
designator IC?, comment TOP221
Family Three-terminal Off-line PWM Switch
footprint DIP8/W0.3 (8 PIN, W 300mil, Pin to pin 100mil)
footprint SO-8 (8-Pin Small Outline Integrated Circuit 1.27 mm Pitch, IPC Medium Density)
pins: 1 S, 2 S, 3 S, 4 C, 5 D, 6 S, 7 S, 8 S
text: 1-8

## TOP221-7Y
designator IC?, comment TOP223
Family Three-terminal Off-line PWM Switch; Designed by: VanDungEvn
footprint QTO-220 (TO-220 - 1-2-3)
pins: 1 C, 2 C, 3 C
text: D; S

## TP
designator TP?, comment 1
CONNECT 1
footprint TP (Footprint not found)
pins: TP1 0

## TP1
designator TP?, comment TP
Test Point; Value: Test Point
footprint TP1 (Test point)
footprint TP6 (Jac cap 6ly)
pins: 1

## TP4056
designator IC?
footprint SOP8
footprint TP4056
pins: 1 TEMP1, 2 Prog2, 3 GND, 4 Vcc, 5 BAT, 6 STDBY, 7 CHRG, 8 CE, 9

## TUSB 3410
designator IC?
USB to RS232 Converter; Value: TUSB 3410
footprint QFP7X7-G32/X.45N (QFP; 32 Leads; Body 7 x 7 mm; Pitch 0.8 mm)
pins: 1 ~{VREGEN}, 2 SUSPEND, 3 VCC, 4 VDD18, 5 PUR, 6 DP, 7 DM, 8 GND, 9 ~{RESET}, 10 SDA, 11 SCL, 12 ~{WAKEUP}, 13 ~{CTS}, 14 ~{DSR}, 15 ~{DCD}, 16 ~{RI}/CP, 17 SIN/IR_I, 18 GND, 19 SOUT/IR_O, 20 ~{RTS}, 21 ~{DTR}, 22 CLKOUT, 23 TEST0, 24 TEST1, 25 VCC, 26 X2, 27 X1/CLK1, 28 GND, 29 P34, 30 P33, 31 P31, 32 P30

## UART
designator P?
footprint JP4 (Jumper 4)
pins: 1 VCC, 2 TX, 3 RX, 4 GND

## ULN2003A
designator IC?
High-Voltage, High-Current Darlington Array; LatestRevisionNote: Stylized 3D Model Added.; Publisher: Altium Limited; Value: ULN2003A
footprint DIP16/W0.3 (16 PIN, W 300mil, Pin to pin 100mil)
footprint SO-G16/X.6 (Small Outline; 16 Leads; Body Width 5.3 mm; Pitch 1.27 mm)
pins: 1 I1 (in), 2 I2 (in), 3 I3 (in), 4 I4 (in), 5 I5 (in), 6 I6 (in), 7 I7 (in), 8 GND (power), 9 COM, 10 O7 (oc), 11 O6 (oc), 12 O5 (oc), 13 O4 (oc), 14 O3 (oc), 15 O2 (oc), 16 O1 (oc)

## ULN2803
designator *

## ULN2803A
designator IC?
High-Voltage, High-Current Darlington Array; LatestRevisionNote: Stylized 3D Model Added.; Publisher: Altium Limited; Value: ULN2803A
footprint DIP18/W0.3 (18 PIN, W 300mil, Pin to pin 100mil)
footprint SOP18
pins: 1 I1 (in), 2 I2 (in), 3 I3 (in), 4 I4 (in), 5 I5 (in), 6 I6 (in), 7 I7 (in), 8 I8 (in), 9 GND (power), 10 COM, 11 O8 (oc), 12 O7 (oc), 13 O6 (oc), 14 O5 (oc), 15 O4 (oc), 16 O3 (oc), 17 O2 (oc), 18 O1 (oc)

## USB_M
designator USB?
footprint USB_B_MINI
footprint USB_B_MINI_SMD
pins: 1 VCC, 2 D-, 3 D+, 4 ID, 5 GND

## USB_S
designator USB?, comment USB-S
USB connector; Value: USB
footprint USB-S2 (USB B connector, 4pin, For Print)
footprint USB-S1 (USB A connector, 4pin, For USB sing)
footprint USB-M (For USB SMD)
footprint USB-S (USB B connector, 4pin, For Print)
pins: 1 VCC, 2 DM -, 3 DP +, 4 GND, 5, 6

## VDE
designator VDE  (value not drawn)
VanDungEvn
footprint VDE (VDE - SM)

## vi_chinh_vuong
designator vr?, comment 10k
footprint vi_chinh_vuong
pins: 1, 2, 3

## VIT
designator VIT?, comment 1
Oc Vit
footprint VIT
pins: VIT1 1

## VOL-D
designator VOL?, comment 50K
Volume control Dual; Value: Volume Dual 50K
footprint VOL-D (Volume control Dual)
part A pins: 1, 2, 3
part B pins: 4, 5, 6

## VOL-S
designator VOL?, comment 50K
Var Resistor; Value: Volume 50k
footprint VOL-S (Volume control single)
footprint VOL_SMD
pins: 1, 2, 3

## VR
designator VR?, comment 10K
Var Resistor; Value: VR 10K
footprint VR1 (Variable Resistor)
footprint VR (Resistor Variable)
pins: 1, 2, 3

## VR1
designator VR?, comment 10K
Var Resistor; Value: VR 10K
footprint VR1 (Variable Resistor)
footprint VR (Resistor Variable)
pins: 1, 2, 3

## VRDual
designator *
footprint VOL-D (Volume control Dual)
pins: 1, 2, 3, 4, 5, 6

## W91314A
designator IC?
TONE/PULSE DIALER WITH  REDIAL FUNCTION; Creat by: VanDungEvn@Gmail.com
footprint DIP18/W0.3 (18 PIN, W 300mil, Pin to pin 100mil)
pins: 1 C1, 2 C2, 3 C3, 4 C4, 5 B/M, 6 VSS, 7 XT, 8 ~{XT}, 9 ~{MUTE}, 10 ~{HK}S, 11 ~{D}T, 12 DTMF, 13 MODE, 14 VDD, 15 R1, 16 R2, 17 R3, 18 R4

## X5045P
designator IC?
4K SPI EEPROM
footprint DIP8/W0.3 (8 PIN, W 300mil, Pin to pin 100mil)
pins: 1 ~{CS}, 2 SO, 3 ~{WP}, 4 GND, 5 SI, 6 CLK, 7 RESET, 8 VCC

## XC95108-15PC84C
designator U?  (value not drawn)
Programmable CPLD; Class I: Programmable Logic Device; Class II: XC9500; Revision: 17-Jul-2002: Re-released for DXP Platform.; Value: XC95108
footprint DIP80_2m (DIP80, P - P 200)
pins: 1 I/O/MC1-2 (io), 2 I/O/MC1-3 (io), 3 I/O/MC1-5 (io), 4 I/O/MC1-6 (io), 5 I/O/MC1-8 (io), 6 I/O/MC1-9 (io), 7 I/O/MC1-11 (io), 8 GND (power), 9 I/O/GCK1/MC1-12 (io), 10 I/O/GCK2/MC1-14 (io), 11 I/O/MC1-15 (io), 12 I/O/GCK3/MC1-16 (io), 13 I/O/MC1-17 (io), 14 I/O/MC3-2 (io), 15 I/O/MC3-3 (io), 16 GND (power), 17 I/O/MC3-5 (io), 18 I/O/MC3-6 (io), 19 I/O/MC3-8 (io), 20 I/O/MC3-9 (io), 21 I/O/MC3-11 (io), 22 VCC IO (power), 23 I/O/MC3-12 (io), 24 I/O/MC3-14 (io), 25 I/O/MC3-15 (io), 26 I/O/MC3-16 (io), 27 GND (power), 28 TD IN (in), 29 TMS (in), 30 TCK (in), 31 I/O/MC3-17 (io), 32 I/O/MC5-2 (io), 33 I/O/MC5-3 (io), 34 I/O/MC5-5 (io), 35 I/O/MC5-6 (io), 36 I/O/MC5-8 (io), 37 I/O/MC-9 (io), 38 VCC INT (power), 39 I/O/MC5-11 (io), 40 I/O/MC5-12 (io), 41 I/O/MC5-14 (io), 42 GND (power), 43 I/O/MC5-15 (io), 44 I/O/MC5-17 (io), 45 I/O/MC6-2 (io), 46 I/O/MC6-3 (io), 47 I/O/MC6-5 (io), 48 I/O/MC6-6 (io), 49 GND (power), 50 I/O/MC6-8 (io), 51 I/O/MC6-9 (io), 52 I/O/MC6-11 (io), 53 I/O/MC6-12 (io), 54 I/O/MC6-14 (io), 55 I/O/MC6-15 (io), 56 I/O/MC6-17 (io), 57 I/O/MC4-2 (io), 58 I/O/MC4-3 (io), 59 TDO (out), 60 GND (power), 61 I/O/MC4-5 (io), 62 I/O/MC4-6 (io), 63 I/O/MC4-8 (io), 64 VCC IO (power), 65 I/O/MC4-9 (io), 66 I/O/MC4-11 (io), 67 I/O/MC4-12 (io), 68 I/O/MC4-14 (io), 69 I/O/MC4-15 (io), 70 I/O/MC4-17 (io), 71 I/O/MC2-2 (io), 72 I/O/MC2-3 (io), 73 VCC INT (power), 74 I/O/GSR/MC2-5 (io), 75 I/O/MC2-6 (io), 76 I/O/GTS1/MC2-8 (io), 77 I/O/GTS2/MC2-9 (io), 78 VCC INT (power), 79 I/O/MC2-11 (io), 80 I/O/MC2-12 (io), 81 I/O/MC2-14 (io), 82 I/O/MC2-15 (io), 83 I/O/MC2-16 (io), 84 I/O/MC2-17 (io)

## XR2206
designator IC?
OSC Sine - Square - Triangle; Value: DIP 16; Value: XR2206
footprint DIP16/W0.3 (16 PIN, W 300mil)
pins: 1 AMSI, 2 STO, 3 MO, 4 +V, 5 TC1, 6 TC2, 7 TR1, 8 TR2, 9 FSK, 10 REF, 11 SYNCO, 12 -V, 13 Ware1, 14 Ware2, 15 SYM1, 16 SYM2

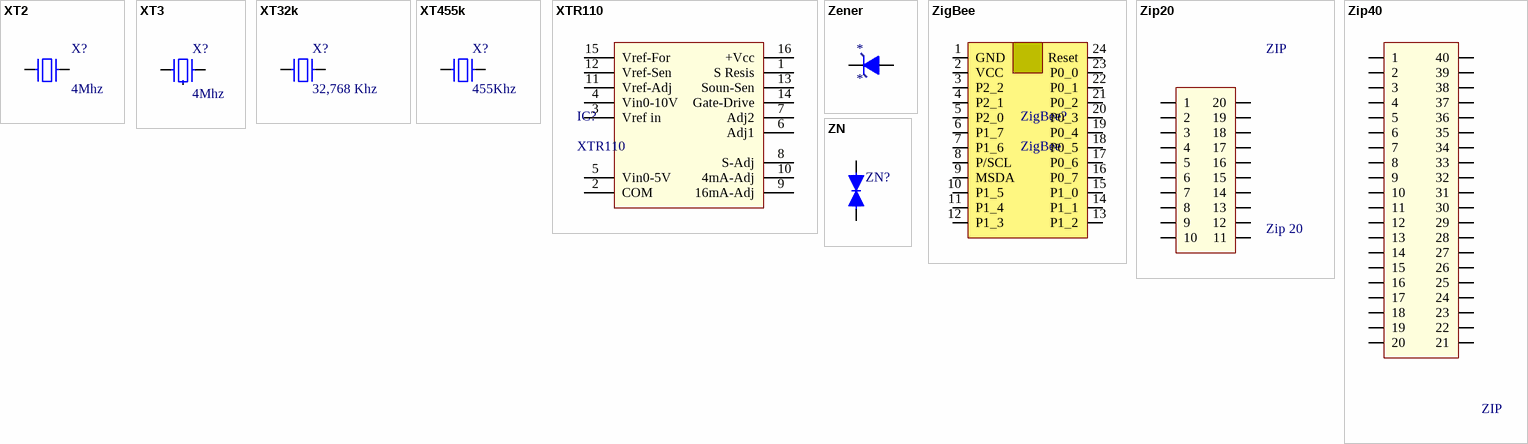
[diagram p16: symbols XT2 to ZN]

## XT2
designator X?, comment 4Mhz
Crystal For all Crystal 2pin.; Value: 4Mhz
footprint XT2 (Footpin for Crystal 2 pin)
footprint XT2N (Crystal 2pin, high 200 mil)
footprint Thach_anh_SMD
pins: 1, 2

## XT3
designator X?, comment 4Mhz
Crystal For all Crystal 2pin.; Value: 4Mhz
footprint XT3 (Crystal 3pin, High 200mil, Cremic)
pins: 1, 2, 3

## XT32k
designator X?, comment 32,768 Khz
Crystal 32,768kHz for timer real; Value: 32,768khz
footprint XT32k (Crystal 32k, 2 pin, real timer for DS1307)
pins: 1, 2

## XT455k
designator X?, comment 455Khz
Crystal 455kHz Infrared; Value: 32,768khz
footprint XT455k (Thach anh 455khz (Infrared))
footprint XT455KN (Thach anh 455khz)
pins: 1, 2

## XTR110
designator IC?
PRECISION VOLTAGE-TO-CURREN  CONVERTER/TRANSMITTER; Designed by: VanDungEvn; Value: XTR110
footprint DIP16/W0.3 (16 PIN, W 300mil, Pin to pin 100mil)
pins: 1 S Resis, 2 COM, 3 Vref in, 4 Vin0-10V, 5 Vin0-5V, 6 Adj1, 7 Adj2, 8 S-Adj, 9 16mA-Adj, 10 4mA-Adj, 11 Vref-Adj, 12 Vref-Sen, 13 Soun-Sen, 14 Gate-Drive, 15 Vref-For, 16 +Vcc

## Zener
designator *
footprint D1A (Diode 1A, W 100mil, L 350mil)
footprint sm-1206-zer
pins: 1 A, 2 K

## ZigBee
designator ZigBee?
footprint Zigbee
footprint zigbee_dip
pins: 1 GND, 2 VCC, 3 P2_2, 4 P2_1, 5 P2_0, 6 P1_7, 7 P1_6, 8 P/SCL, 9 MSDA, 10 P1_5, 11 P1_4, 12 P1_3, 13 P1_2, 14 P1_1, 15 P1_0, 16 P0_7, 17 P0_6, 18 P0_5, 19 P0_4, 20 P0_3, 21 P0_2, 22 P0_1, 23 P0_0, 24 Reset

## Zip20
designator ZIP, comment Zip 20
De 20 pin; Value: Gat 20 pin
footprint ZIP20 (DIP 20, W 600mil/ L 1600mil)
footprint DIP20/W0.3 (DIP 20, 20 PIN, W 300mil, Pin to pin 100mil)
pins: 1, 2, 3, 4, 5, 6, 7, 8, 9, 10, 11, 12, 13, 14, 15, 16, 17, 18, 19, 20

## Zip40
designator ZIP, comment Zip 40  (value not drawn)
De 40 pin; Value: Gat 40 pin
footprint ZIP40 (40 PIN, W 900 mil , L 2600 mil , Push Pro FOR Chip)
footprint DIP40/W0.6 (40 PIN, W 600mil, Pin to pin 100mil)
footprint DIP40/W0.3 (40 PIN, W 300mil, Pin to pin 100mil)
pins: 1, 2, 3, 4, 5, 6, 7, 8, 9, 10, 11, 12, 13, 14, 15, 16, 17, 18, 19, 20, 21, 22, 23, 24, 25, 26, 27, 28, 29, 30, 31, 32, 33, 34, 35, 36, 37, 38, 39, 40

## ZN
designator ZN?, comment Z  (value not drawn)
Zenner Protect AC in; Value: Zenner Protect AC input
footprint CN4 (Cap np W 0.4)
pins: 1, 2